# Altium footprint library led_2835_driver_circle_10X10cm.PcbLib: 2 footprints
Each footprint in its own frame and in the unit in brackets; x right, y up, seen from the top. Pads: shape width x height; smd on the part's side, far side on the other; paste and mask are expansions set on the pad; w line width, h text height; cw(c..) or ccw(c..) is an arc to the next point about the centre after c.
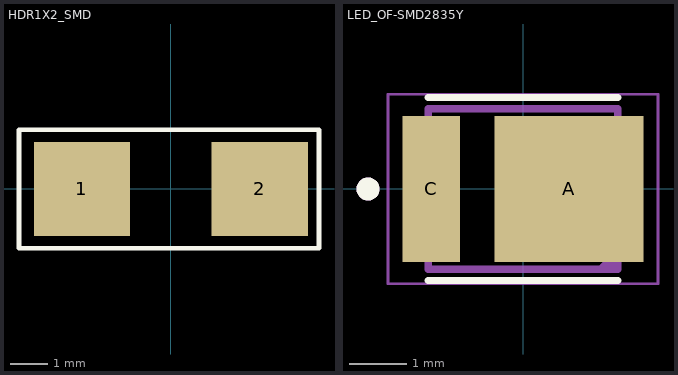
[diagram p0: the footprints below, top view; thin cyan lines are the x and y axes]

## HDR1X2_SMD [mm] "Connector; Header; 2 Position"
pads (2):
  rect 2.6x2.55 smd: 1(-2.4,0) 2(2.4,0)
Top Overlay:
  lines w0.127: -4.1,-1.6 4,-1.6 4,1.6 -4.1,1.6 -4.1,-1.6

## LED_OF-SMD2835Y [mm]
pads (2):
  rect 2.6x2.55 smd: A(0.8,0)
  rect 1x2.55 smd: C(-1.6,0)
Top Overlay:
  circle w0.2: c-2.7,0 r0.1
  lines w0.127: -1.65,-1.595 1.65,-1.595 ; -1.65,1.595 1.65,1.595
Mechanical 13:
  circle w0.2: c-2.7,0 r0.1
  lines w0.127: 1.35,-1.4 1.45,-1.4 ; 1.35,-1.4 -1.65,-1.4 -1.65,1.4 1.65,1.4 1.65,-1.1 ; 1.35,-1.4 1.65,-1.1 ; 1.45,-1.4 1.65,-1.4 1.65,-1.2 ; 1.45,-1.4 1.65,-1.2 ; 1.65,-1.2 1.65,-1.1
Mechanical 15:
  lines w0.05: -2.35,-1.65 2.35,-1.65 2.35,1.65 -2.35,1.65 -2.35,-1.65